# EAGLE library part ICSP_HDR (library cartesian_main)
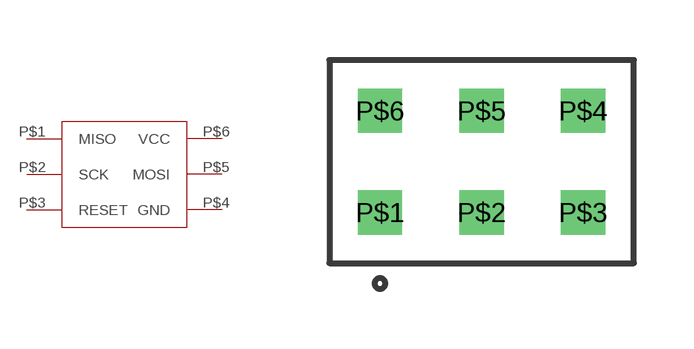
[diagram p5: symbol with the pads of 2X3_.1"; footprint 2X3_.1"]

Designator prefix -

## ICSP_HDR  [2X3_.1"]
P$1  MISO
P$2  SCK
P$3  RESET
P$4  GND
P$5  MOSI
P$6  VCC

## Footprint 2X3_.1" (pad centres in mm)
drill 0.6 pad 1.07 square: P$1 0,0; P$2 2.54,0; P$3 5.08,0; P$4 5.08,2.54; P$5 2.54,2.54; P$6 0,2.54